# Altium schematic symbol library Transistor.SchLib: 2 symbols
Pins are listed as number, name and electrical type; pins without a type are passive.

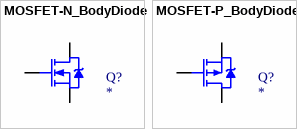
[diagram p0: symbols MOSFET-N_BodyDiode to MOSFET-P_BodyDiode]

## MOSFET-N_BodyDiode
designator Q?
N-channel MOSFET with body diode drawn
footprint SC-89 (SC-89, 3-Leads, Body 1.7x1mm, Lead Span 1.7mm, IPC Medium Density); pin to pad D>3 G>1 S>2
footprint PG-TDSON-8_MOSFET_M (PG-TDSON, MOSFET terminals, 8-Leads, Body 5x5.8mm, Pitch 1.27mm, IPC Low Density)
footprint SOT23-3_N (SOT23, 3-Leads, Body 1.4x3mm, Lead Span 2.6mm, IPC Medium Density); pin to pad D>3 G>1 S>2
pins: D, G, S

## MOSFET-P_BodyDiode
designator Q?
P-channel MOSFET with body diode drawn
footprint SC-89 (SC-89, 3-Leads, Body 1.7x1mm, Lead Span 1.7mm, IPC Medium Density); pin to pad D>3 G>1 S>2
footprint SOT23-3_N (SOT23, 3-Leads, Body 1.4x3mm, Lead Span 2.6mm, IPC Medium Density); pin to pad D>3 G>1 S>2
pins: D, G, S